# EAGLE library part PINHEAD-1X8 (library BaseApp)
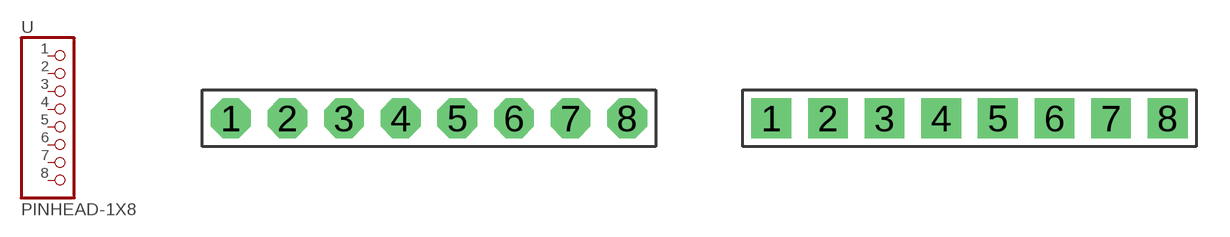
[diagram p63: symbol with the pads of PINHEAD-1X8; footprints PINHEAD-1X8, PINHEAD-1X8-SQUARE]

Designator prefix -

## PINHEAD-1X8  [PINHEAD-1X8]
1  1  pas
2  2  pas
3  3  pas
4  4  pas
5  5  pas
6  6  pas
7  7  pas
8  8  pas

## PINHEAD-1X8.  [PINHEAD-1X8-SQUARE]
Pads as for PINHEAD-1X8

## PINHEAD-1X8MOLEX-LOCK  [MOLEX-1X8_LOCK]
Pads as for PINHEAD-1X8

## Footprint PINHEAD-1X8 (pad centres in mm)
drill 1.016 pad 1.778 octagon: 1 -8.89,0; 2 -6.35,0; 3 -3.81,0; 4 -1.27,0; 5 1.27,0; 6 3.81,0; 7 6.35,0; 8 8.89,0

## Footprint PINHEAD-1X8-SQUARE (pad centres in mm)
drill 1.016 pad 1.778 square: 1 -8.89,0; 2 -6.35,0; 3 -3.81,0; 4 -1.27,0; 5 1.27,0; 6 3.81,0; 7 6.35,0; 8 8.89,0

## Footprint MOLEX-1X8_LOCK (pad centres in mm)
drill 1.016 pad 1.88: 1 -8.89,0; 2 -6.35,-0.254; 3 -3.81,0; 4 -1.27,-0.254; 5 1.27,0; 6 3.81,-0.254; 7 6.35,0; 8 8.89,-0.254